# EAGLE library part MCP1700 (library MCP1700)
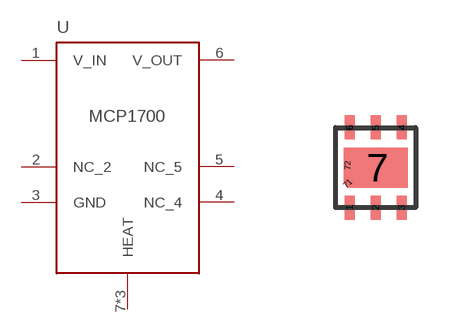
[diagram p0: symbol with the pads of MCP1700; footprint MCP1700]

Designator prefix -

## MCP1700  [MCP1700]
1  V_IN
2  NC_2
3  GND
4  NC_4
5  NC_5
6  V_OUT
7  HEAT
71  HEAT
72  HEAT

## Footprint MCP1700 (pad centres in mm)
smd 0.25 x 0.6: 1 -0.65,-1; 2 0,-1; 3 0.65,-1; 4 0.65,1; 5 0,1; 6 -0.65,1
smd 1.5 x 1: 7 0.05,0
smd 0.141 x 0.141 rotated 45: 71 -0.7,-0.4
smd 0.2 x 0.9: 72 -0.7,0.05